# Altium footprint library Connectors Rectangular 2.54 IDC.PcbLib: 3 footprints
Each footprint in its own frame and in the unit in brackets; x right, y up, seen from the top. Pads: shape width x height; smd on the part's side, far side on the other; paste and mask are expansions set on the pad; w line width, h text height; cw(c..) or ccw(c..) is an arc to the next point about the centre after c.
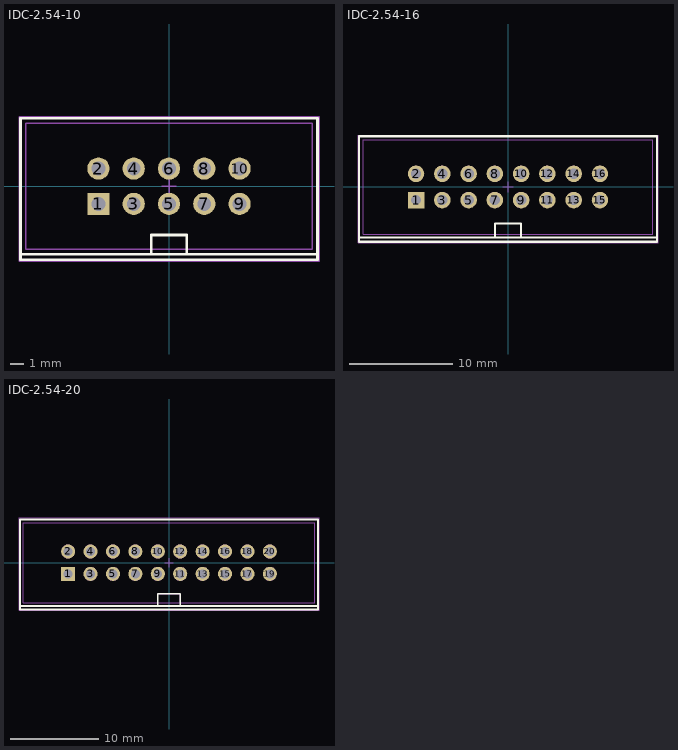
[diagram p0: the footprints below, top view; thin cyan lines are the x and y axes]

## IDC-2.54-10 [mm]
height 9
pads (10):
  rect 1.6x1.6 hole 1: 1(-5.08,-1.27)
  round 1.6 hole 1: 2(-5.08,1.27) 3(-2.54,-1.27) 4(-2.54,1.27) 5(0,-1.27) 6(0,1.27) 7(2.54,-1.27) 8(2.54,1.27) 9(5.08,-1.27) 10(5.08,1.27)
Top Overlay:
  lines w0.2: -1.27,-4.87 -1.27,-3.52 1.27,-3.52 1.27,-4.87 ; -10.7,-4.9 -10.7,-5.3 10.7,-5.3 10.7,-4.9 ; -10.7,-4.9 10.7,-4.9 ; -10.7,-4.9 -10.7,4.9 10.7,4.9 10.7,-4.9
Top Package:
  circle w0.1: c5.08,-1.27 r0.5
  circle w0.1: c-2.54,-1.27 r0.5
  circle w0.1: c5.08,1.27 r0.5
  circle w0.1: c-2.54,1.27 r0.5
  circle w0.1: c2.54,-1.27 r0.5
  circle w0.1: c0,-1.27 r0.5
  circle w0.1: c-5.08,-1.27 r0.5
  circle w0.1: c2.54,1.27 r0.5
  circle w0.1: c0,1.27 r0.5
  circle w0.1: c-5.08,1.27 r0.5
  lines w0.1: -1.27,-4.52 -1.27,-3.52 1.27,-3.52 1.27,-4.52 ; -10.3,-4.55 -10.3,4.55 10.3,4.55 10.3,-4.55 -10.3,-4.55
Top Comment:
  text ".Comment" at -3.548,2.685 h2.5
Top Designator:
  text ".Designator" at -4.303,2.917 h2.5
Top Border:
  lines w0.1: -10.8,-5.4 -10.8,5 10.8,5 10.8,-5.4 -10.8,-5.4 ; -0.508,0 0.508,0 -0.508,0 ; 0,-0.508 0,0.508 0,-0.508
3D body "User Library-IDC-10M.STEP": height 9.3, standoff -3.1, extent -10.15,-4.5 10.15,4.6

## IDC-2.54-16 [mm]
height 9
pads (16):
  rect 1.6x1.6 hole 1: 1(-8.89,-1.27)
  round 1.6 hole 1: 2(-8.89,1.27) 3(-6.35,-1.27) 4(-6.35,1.27) 5(-3.81,-1.27) 6(-3.81,1.27) 7(-1.27,-1.27) 8(-1.27,1.27) 9(1.27,-1.27) 10(1.27,1.27) 11(3.81,-1.27) 12(3.81,1.27) 13(6.35,-1.27) 14(6.35,1.27) 15(8.89,-1.27) 16(8.89,1.27)
Top Overlay:
  lines w0.2: -1.27,-4.87 -1.27,-3.52 1.27,-3.52 1.27,-4.87 ; -14.4,-4.9 -14.4,-5.3 14.4,-5.3 14.4,-4.9 ; -14.4,-4.9 -14.4,4.9 14.4,4.9 14.4,-4.9 ; -14.4,-4.9 14.4,-4.9
Top Package:
  circle w0.1: c6.35,-1.27 r0.718
  circle w0.1: c-1.27,-1.27 r0.718
  circle w0.1: c-8.89,-1.27 r0.718
  circle w0.1: c6.35,1.27 r0.718
  circle w0.1: c-1.27,1.27 r0.718
  circle w0.1: c-8.89,1.27 r0.718
  circle w0.1: c8.89,-1.27 r0.718
  circle w0.1: c1.27,-1.27 r0.718
  circle w0.1: c3.81,-1.27 r0.718
  circle w0.1: c-3.81,-1.27 r0.718
  circle w0.1: c-6.35,-1.27 r0.718
  circle w0.1: c8.89,1.27 r0.718
  circle w0.1: c3.81,1.27 r0.718
  circle w0.1: c1.27,1.27 r0.718
  circle w0.1: c-3.81,1.27 r0.718
  circle w0.1: c-6.35,1.27 r0.718
  lines w0.1: -1.27,-4.52 -1.27,-3.52 1.27,-3.52 1.27,-4.52 ; -14,-4.55 -14,4.55 14,4.55 14,-4.55 -14,-4.55
Top Comment:
  text ".Comment" at -3.548,2.685 h2.5
Top Designator:
  text ".Designator" at -4.303,2.917 h2.5
Top Border:
  lines w0.1: -14.5,-5.4 14.5,-5.4 14.5,5 -14.5,5 -14.5,-5.4 ; -0.508,0 0.508,0 -0.508,0 ; 0,-0.508 0,0.508 0,-0.508
3D body "IDC-162N.step": height 9.33, standoff -3.07, extent -13.96,-4.4 13.96,4.45

## IDC-2.54-20 [mm]
height 9
pads (20):
  rect 1.6x1.6 hole 1: 1(-11.43,-1.27)
  round 1.6 hole 1: 2(-11.43,1.27) 3(-8.89,-1.27) 4(-8.89,1.27) 5(-6.35,-1.27) 6(-6.35,1.27) 7(-3.81,-1.27) 8(-3.81,1.27) 9(-1.27,-1.27) 10(-1.27,1.27) 11(1.27,-1.27) 12(1.27,1.27) 13(3.81,-1.27) 14(3.81,1.27) 15(6.35,-1.27) 16(6.35,1.27) 17(8.89,-1.27) 18(8.89,1.27) 19(11.43,-1.27) 20(11.43,1.27)
Top Overlay:
  lines w0.2: -1.27,-4.87 -1.27,-3.52 1.27,-3.52 1.27,-4.87 ; -16.9,-4.9 16.9,-4.9 ; -16.9,-4.9 -16.9,-5.3 16.9,-5.3 16.9,-4.9 ; -16.9,-4.9 -16.9,4.9 16.9,4.9 16.9,-4.9
Top Package:
  circle w0.1: c6.35,-1.27 r0.718
  circle w0.1: c-1.27,-1.27 r0.718
  circle w0.1: c-8.89,-1.27 r0.718
  circle w0.1: c6.35,1.27 r0.718
  circle w0.1: c-1.27,1.27 r0.718
  circle w0.1: c-8.89,1.27 r0.718
  circle w0.1: c8.89,-1.27 r0.718
  circle w0.1: c11.43,-1.27 r0.718
  circle w0.1: c1.27,-1.27 r0.718
  circle w0.1: c3.81,-1.27 r0.718
  circle w0.1: c-3.81,-1.27 r0.718
  circle w0.1: c-6.35,-1.27 r0.718
  circle w0.1: c-11.43,-1.27 r0.718
  circle w0.1: c11.43,1.27 r0.718
  circle w0.1: c8.89,1.27 r0.718
  circle w0.1: c3.81,1.27 r0.718
  circle w0.1: c1.27,1.27 r0.718
  circle w0.1: c-3.81,1.27 r0.718
  circle w0.1: c-6.35,1.27 r0.718
  circle w0.1: c-11.43,1.27 r0.718
  lines w0.1: -1.27,-4.52 -1.27,-3.52 1.27,-3.52 1.27,-4.52 ; -16.5,-4.55 -16.5,4.55 16.5,4.55 16.5,-4.55 -16.5,-4.55
Top Comment:
  text ".Comment" at -3.548,2.685 h2.5
Top Designator:
  text ".Designator" at -4.303,2.917 h2.5
Top Border:
  lines w0.1: -17,-5.4 -17,5.1 17,5.1 17,-5.4 -17,-5.4 ; -0.508,0 0.508,0 -0.508,0 ; 0,-0.508 0,0.508 0,-0.508
3D body "User Library-idc-20_asm.STEP": height 9.1, standoff -3.1, extent -16.35,-4.2 16.35,4.3